# Altium integrated library Linear Technology Power Management Power Control.IntLib: 661 symbols (part 30 of 43)
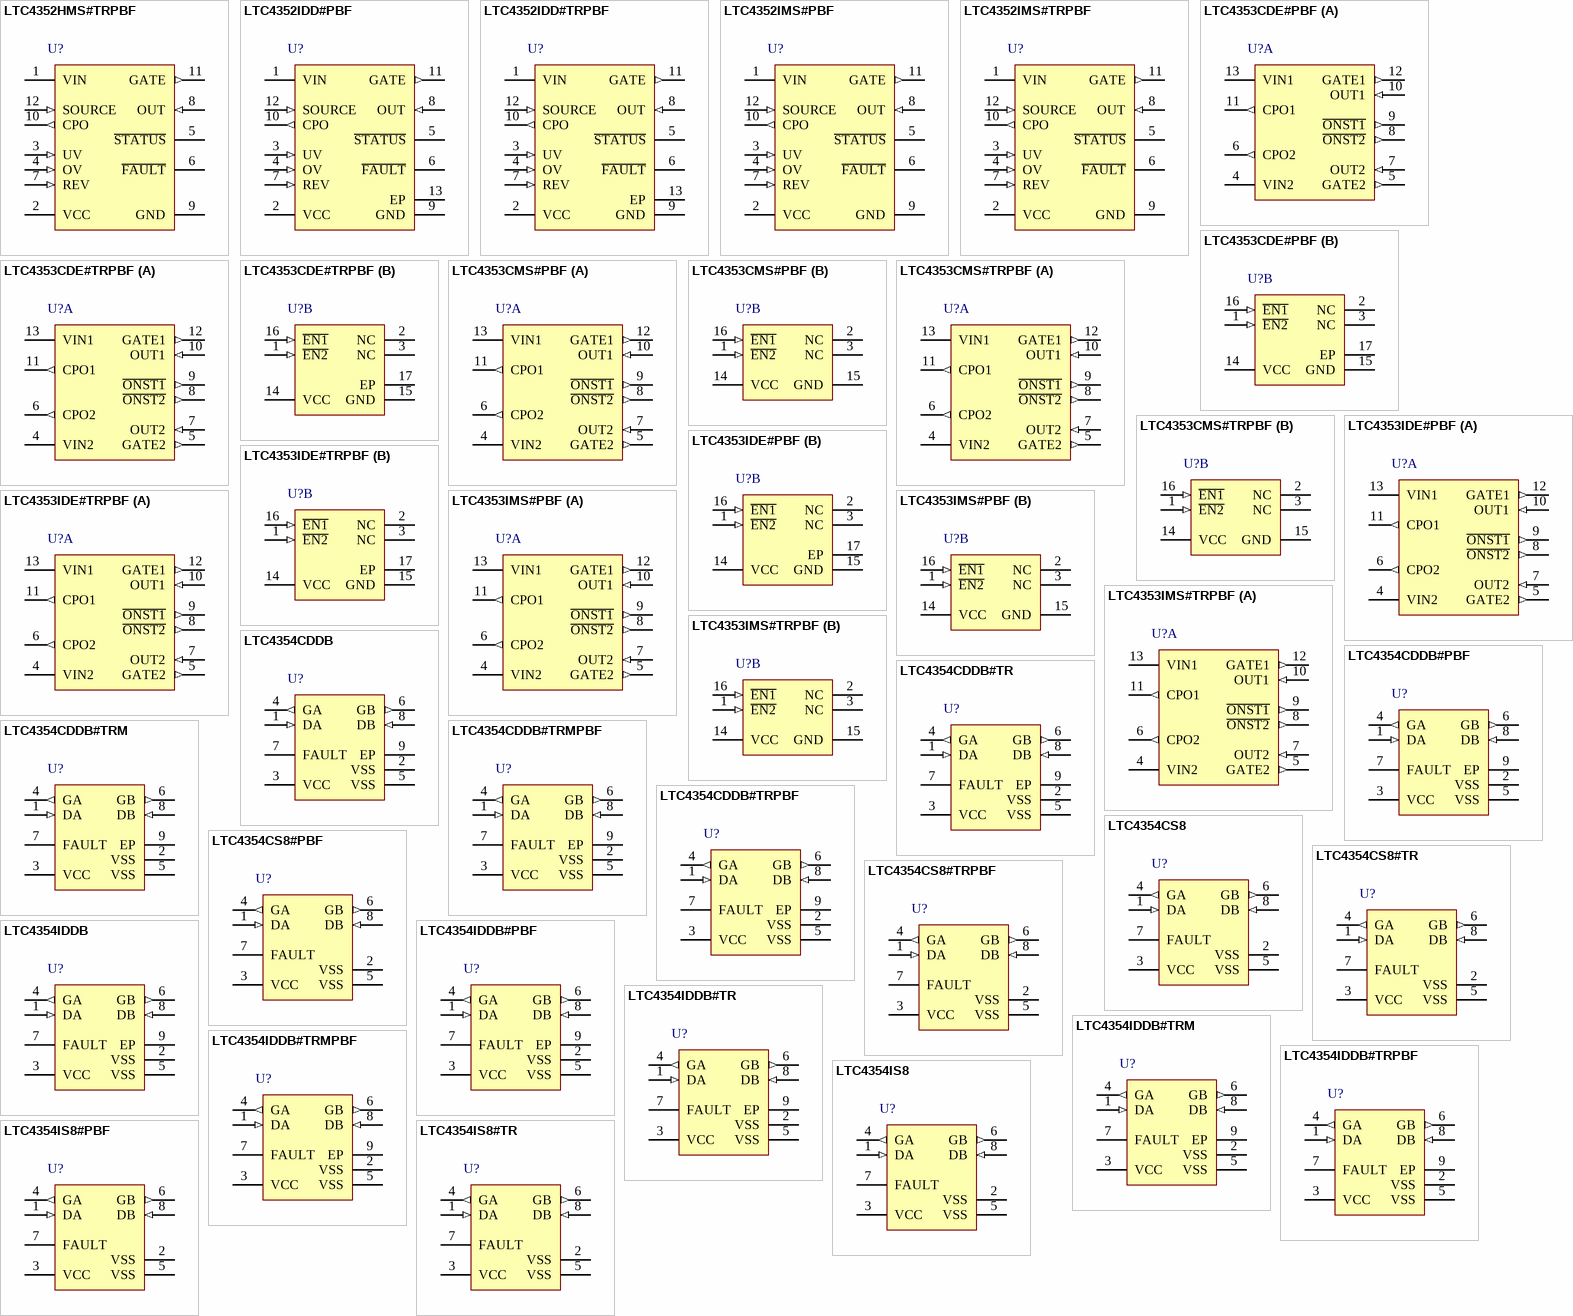
[diagram p48: symbols LTC4352HMS#TRPBF to LTC4354IS8#TR]

## LTC4354IS8#PBF
designator U?
Dual Channel, 1 us Turn-off Time, -12 to -80 V Vin, 8-pin SOIC (S8-8), -40 to 85 degC, Pb-Free; Manufacturer: Linear Technology; PartNumber: LTC4354IS8#PBF; Ideal Diode: Dual, External, N-Channel; DatasheetVersion: Rev. C; PackageVersion: Rev. G, 03/2012; PackageReference: S8-8; PackageDescription: 8-Pin Plastic Small Outline (Narrow .150 Inch), Body 4.9 x 3.9 mm, Pitch 1.27 mm; Supplier 1: Digi-Key; Supplier Part Number 1: LTC4354IS8#PBF-ND; Supplier 2: Farnell; Supplier Part Number 2: 2295292; Supplier 3: Newark; Supplier Part Number 3: 56M9455; RoHS: TRUE; Mounting Technology: Surface Mount; ComponentLink1Description: Manufacturer URL; ComponentLink1URL: http://www.linear.com/; ComponentLink2Description: Datasheet; ComponentLink2URL: http://cds.linear.com/docs/en/datasheet/4354fc.pdf; ComponentLink3Description: Package Specification; ComponentLink3URL: http://cds.linear.com/docs/en/packaging/05081610_G_SO8.pdf
footprint LT-S8-8_N (SOIC, 8-Leads, Body 5x4mm, Pitch 1.27mm, IPC Medium Density)
footprint LT-S8-8_L (SOIC, 8-Leads, Body 5x4mm, Pitch 1.27mm, IPC High Density)
footprint LT-S8-8_M (SOIC, 8-Leads, Body 5x4mm, Pitch 1.27mm, IPC Low Density)
pins: 1 DA (in) "Drain Voltage Sense Inputs. These pins sense source drain voltage drop across the N-channel MOSFETs. An external resistor is recommended to protect these pins from transient voltages exceeding 80V in extreme fault conditions.(See Datasheet)", 2 VSS (power) "Negative Supply Voltage Input. This is the device negative supply input and connects to the common source connection of the N-channel MOSFETs. It also connects to the source voltage sense input of the servo amplifiers. For (See Datasheet)", 3 VCC (power) "Positive Supply Voltage Input. Connect this pin to the positive side of the supply through a resistor. An internal shunt regulator that can sink up to 20mA typically clamps VCC at 11V. Bypass this pin with a 1uF capacitor to (See Datasheet)", 4 GA (out) "Gate Drive Outputs. Gate pins pull high to 10V minimum, fully enhancing the N-channel MOSFET, when the load current creates more than 30mV of drop across the MOSFET. When the load current is small, the gates are actively (See Datasheet)", 5 VSS (power) "Negative Supply Voltage Input. This is the device negative supply input and connects to the common source connection of the N-channel MOSFETs. It also connects to the source voltage sense input of the servo amplifiers. For (See Datasheet)", 6 GB (out) "Gate Drive Outputs. Gate pins pull high to 10V minimum, fully enhancing the N-channel MOSFET, when the load current creates more than 30mV of drop across the MOSFET. When the load current is small, the gates are actively (See Datasheet)", 7 FAULT (hiz) "Fault Output. Open-drain output that normally pulls the FAULT pin to VSS and shunts current to turn off an external LED or opto-coupler. In the fault condition, where the pass transistor is fully on and the voltage drop (See Datasheet)", 8 DB (in) "Drain Voltage Sense Inputs. These pins sense source drain voltage drop across the N-channel MOSFETs. An external resistor is recommended to protect these pins from transient voltages exceeding 80V in extreme fault conditions.(See Datasheet)"

## LTC4354IS8#TR
designator U?
Dual Channel, 1 us Turn-off Time, -12 to -80 V Vin, 8-pin SOIC (S8-8), -40 to 85 degC, Tape and Reel; Manufacturer: Linear Technology; PartNumber: LTC4354IS8#TR; Ideal Diode: Dual, External, N-Channel; DatasheetVersion: Rev. C; PackageVersion: Rev. G, 03/2012; PackageReference: S8-8; PackageDescription: 8-Pin Plastic Small Outline (Narrow .150 Inch), Body 4.9 x 3.9 mm, Pitch 1.27 mm; Supplier 1: Digi-Key; Supplier Part Number 1: LTC4354IS8#TR-ND; Packing: Tape and Reel; RoHS: FALSE; Mounting Technology: Surface Mount; ComponentLink1Description: Manufacturer URL; ComponentLink1URL: http://www.linear.com/; ComponentLink2Description: Datasheet; ComponentLink2URL: http://cds.linear.com/docs/en/datasheet/4354fc.pdf; ComponentLink3Description: Package Specification; ComponentLink3URL: http://cds.linear.com/docs/en/packaging/05081610_G_SO8.pdf
footprint LT-S8-8_N (SOIC, 8-Leads, Body 5x4mm, Pitch 1.27mm, IPC Medium Density)
footprint LT-S8-8_L (SOIC, 8-Leads, Body 5x4mm, Pitch 1.27mm, IPC High Density)
footprint LT-S8-8_M (SOIC, 8-Leads, Body 5x4mm, Pitch 1.27mm, IPC Low Density)
pins: 1 DA (in) "Drain Voltage Sense Inputs. These pins sense source drain voltage drop across the N-channel MOSFETs. An external resistor is recommended to protect these pins from transient voltages exceeding 80V in extreme fault conditions.(See Datasheet)", 2 VSS (power) "Negative Supply Voltage Input. This is the device negative supply input and connects to the common source connection of the N-channel MOSFETs. It also connects to the source voltage sense input of the servo amplifiers. For (See Datasheet)", 3 VCC (power) "Positive Supply Voltage Input. Connect this pin to the positive side of the supply through a resistor. An internal shunt regulator that can sink up to 20mA typically clamps VCC at 11V. Bypass this pin with a 1uF capacitor to (See Datasheet)", 4 GA (out) "Gate Drive Outputs. Gate pins pull high to 10V minimum, fully enhancing the N-channel MOSFET, when the load current creates more than 30mV of drop across the MOSFET. When the load current is small, the gates are actively (See Datasheet)", 5 VSS (power) "Negative Supply Voltage Input. This is the device negative supply input and connects to the common source connection of the N-channel MOSFETs. It also connects to the source voltage sense input of the servo amplifiers. For (See Datasheet)", 6 GB (out) "Gate Drive Outputs. Gate pins pull high to 10V minimum, fully enhancing the N-channel MOSFET, when the load current creates more than 30mV of drop across the MOSFET. When the load current is small, the gates are actively (See Datasheet)", 7 FAULT (hiz) "Fault Output. Open-drain output that normally pulls the FAULT pin to VSS and shunts current to turn off an external LED or opto-coupler. In the fault condition, where the pass transistor is fully on and the voltage drop (See Datasheet)", 8 DB (in) "Drain Voltage Sense Inputs. These pins sense source drain voltage drop across the N-channel MOSFETs. An external resistor is recommended to protect these pins from transient voltages exceeding 80V in extreme fault conditions.(See Datasheet)"

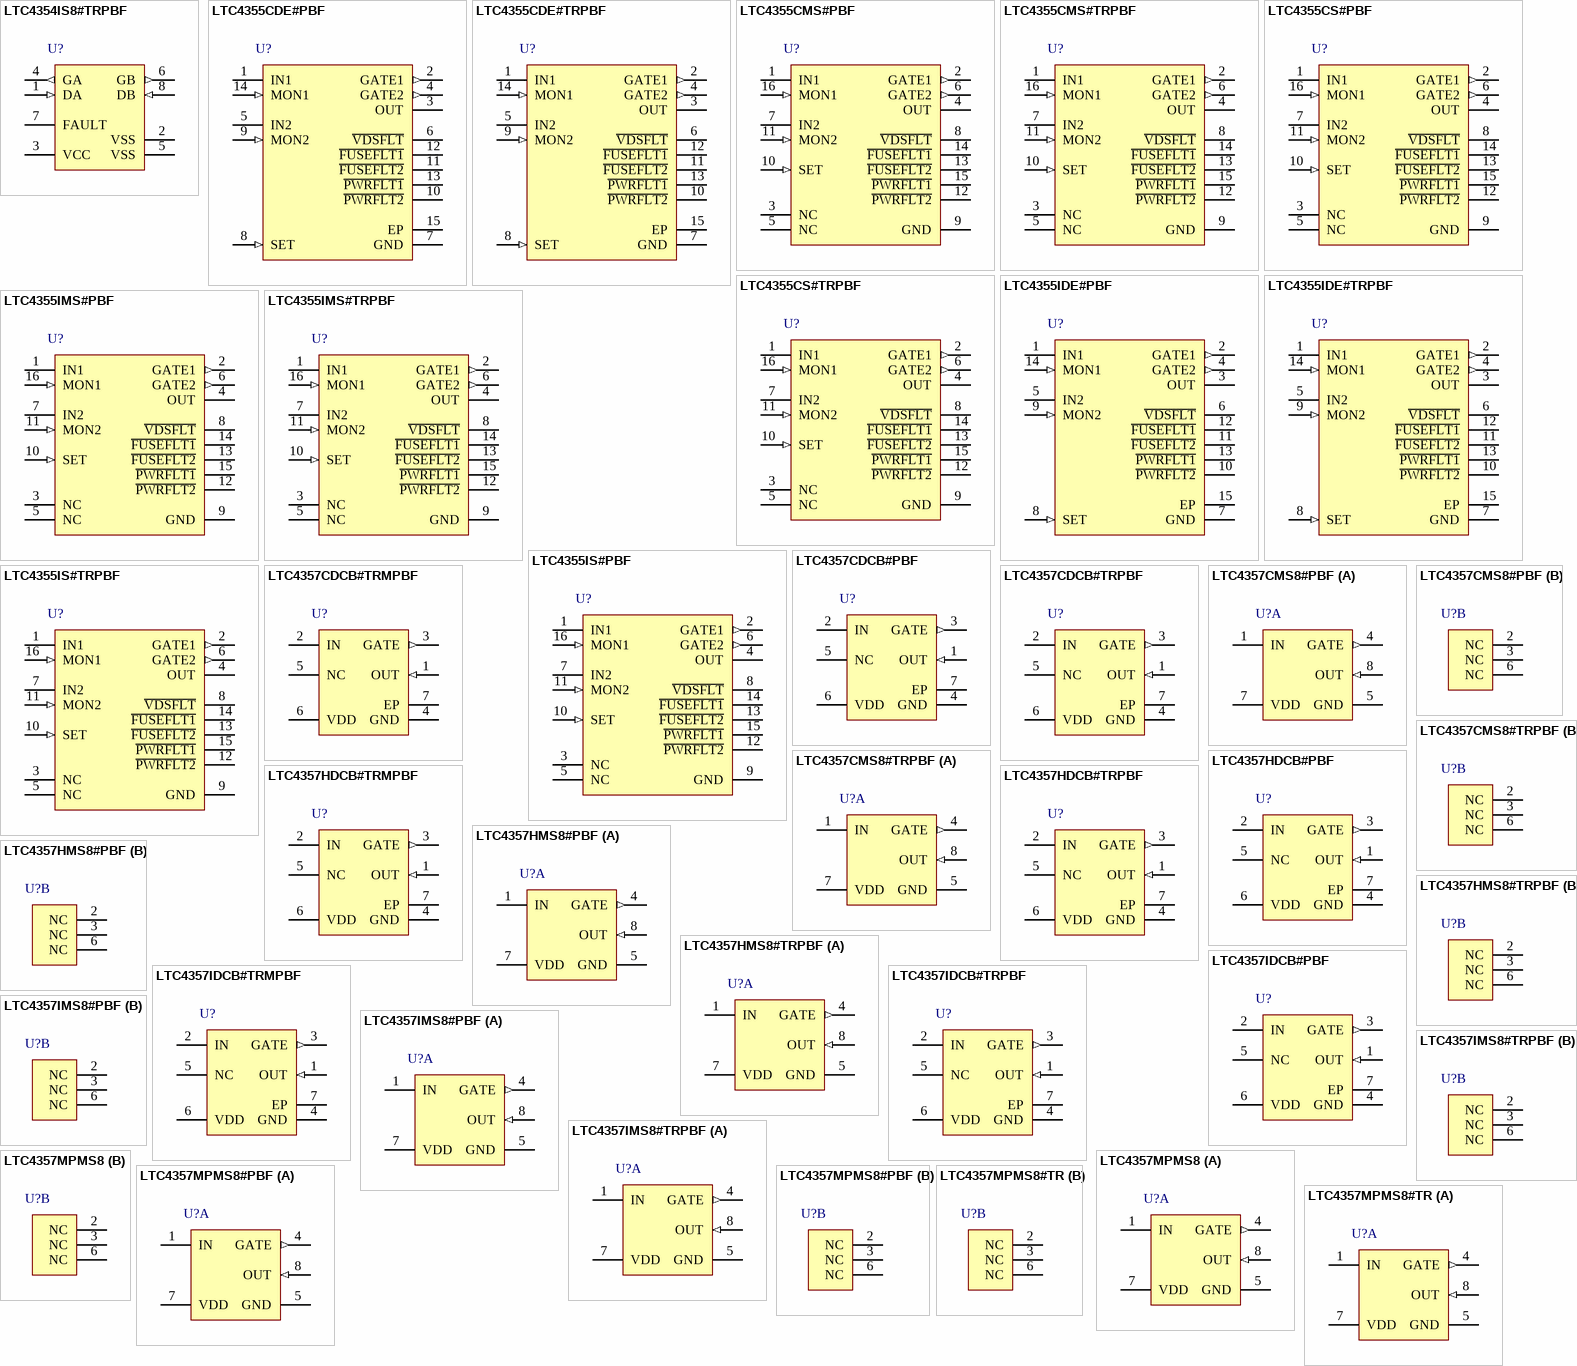
[diagram p14: symbols LTC4354IS8#TRPBF to LTC4357MPMS8#TR]

## LTC4354IS8#TRPBF
designator U?
Dual Channel, 1 us Turn-off Time, -12 to -80 V Vin, 8-pin SOIC (S8-8), -40 to 85 degC, Pb-Free, Tape and Reel; Manufacturer: Linear Technology; PartNumber: LTC4354IS8#TRPBF; Ideal Diode: Dual, External, N-Channel; DatasheetVersion: Rev. C; PackageVersion: Rev. G, 03/2012; PackageReference: S8-8; PackageDescription: 8-Pin Plastic Small Outline (Narrow .150 Inch), Body 4.9 x 3.9 mm, Pitch 1.27 mm; Supplier 1: Digi-Key; Supplier Part Number 1: LTC4354IS8#TRPBF-ND; Supplier 2: Newark; Supplier Part Number 2: 56M9457; Packing: Tape and Reel; RoHS: TRUE; Mounting Technology: Surface Mount; ComponentLink1Description: Manufacturer URL; ComponentLink1URL: http://www.linear.com/; ComponentLink2Description: Datasheet; ComponentLink2URL: http://cds.linear.com/docs/en/datasheet/4354fc.pdf; ComponentLink3Description: Package Specification; ComponentLink3URL: http://cds.linear.com/docs/en/packaging/05081610_G_SO8.pdf
footprint LT-S8-8_N (SOIC, 8-Leads, Body 5x4mm, Pitch 1.27mm, IPC Medium Density)
footprint LT-S8-8_L (SOIC, 8-Leads, Body 5x4mm, Pitch 1.27mm, IPC High Density)
footprint LT-S8-8_M (SOIC, 8-Leads, Body 5x4mm, Pitch 1.27mm, IPC Low Density)
pins: 1 DA (in) "Drain Voltage Sense Inputs. These pins sense source drain voltage drop across the N-channel MOSFETs. An external resistor is recommended to protect these pins from transient voltages exceeding 80V in extreme fault conditions.(See Datasheet)", 2 VSS (power) "Negative Supply Voltage Input. This is the device negative supply input and connects to the common source connection of the N-channel MOSFETs. It also connects to the source voltage sense input of the servo amplifiers. For (See Datasheet)", 3 VCC (power) "Positive Supply Voltage Input. Connect this pin to the positive side of the supply through a resistor. An internal shunt regulator that can sink up to 20mA typically clamps VCC at 11V. Bypass this pin with a 1uF capacitor to (See Datasheet)", 4 GA (out) "Gate Drive Outputs. Gate pins pull high to 10V minimum, fully enhancing the N-channel MOSFET, when the load current creates more than 30mV of drop across the MOSFET. When the load current is small, the gates are actively (See Datasheet)", 5 VSS (power) "Negative Supply Voltage Input. This is the device negative supply input and connects to the common source connection of the N-channel MOSFETs. It also connects to the source voltage sense input of the servo amplifiers. For (See Datasheet)", 6 GB (out) "Gate Drive Outputs. Gate pins pull high to 10V minimum, fully enhancing the N-channel MOSFET, when the load current creates more than 30mV of drop across the MOSFET. When the load current is small, the gates are actively (See Datasheet)", 7 FAULT (hiz) "Fault Output. Open-drain output that normally pulls the FAULT pin to VSS and shunts current to turn off an external LED or opto-coupler. In the fault condition, where the pass transistor is fully on and the voltage drop (See Datasheet)", 8 DB (in) "Drain Voltage Sense Inputs. These pins sense source drain voltage drop across the N-channel MOSFETs. An external resistor is recommended to protect these pins from transient voltages exceeding 80V in extreme fault conditions.(See Datasheet)"

## LTC4355CDE#PBF
designator U?
Positive High Voltage Dual Ideal Diode-OR with Input Supply and Fuse Monitors, 9 to 80 V Vin, 14-pin SON (DE-14), 0 to 70 degC, Pb-Free; Manufacturer: Linear Technology; PartNumber: LTC4355CDE#PBF; Ideal Diode: Dual, External, N-Channel; DatasheetVersion: Rev. E; PackageVersion: Rev. B, 06/2010; PackageReference: DE-14; PackageDescription: 14-Pin Plastic DFN, Body 4 x 3 mm, Pitch 0.5 mm; Supplier 1: Digi-Key; Supplier Part Number 1: LTC4355CDE#PBF-ND; Supplier 2: Newark; Supplier Part Number 2: 56M9458; RoHS: TRUE; Mounting Technology: Surface Mount; Code_JEDEC: MO-229; ComponentLink1Description: Manufacturer URL; ComponentLink1URL: http://www.linear.com/; ComponentLink2Description: Datasheet; ComponentLink2URL: http://cds.linear.com/docs/en/datasheet/4355fe.pdf; ComponentLink3Description: Package Specification; ComponentLink3URL: http://www.linear.com/docs/en/packaging/DFN_14_05-08-1708.pdf
footprint LT-DE-14_V (SON, 14-Leads, Body 4x3mm, Pitch 0.5mm, Thermal Pad 3.3x1.7mm)
pins: 1 IN1 (power) "Input Voltages and GATE Fast Pull-Down Returns. The IN pins are the anodes of the ideal diodes and connect to the sources of the N-channel MOSFETs. The voltages sensed at these pins are used to control the source-drain (See Datasheet)", 2 GATE1 (out) "Gate Drive Outputs. The GATE pins pull high, enhancing the N-channel MOSFET when the load current creates more than 25mV of voltage drop across the MOSFET. When the load current is small, the gates are actively driven to (See Datasheet)", 3 OUT (power) "Drain Voltage Sense and Positive Supply Input. OUT is the diode-OR output of IN1 and IN2. It connects to the common drain connection of the N-channel MOSFETs. The voltage sensed at this pin is used to control the sourcedrain (See Datasheet)", 4 GATE2 (out) "Gate Drive Outputs. The GATE pins pull high, enhancing the N-channel MOSFET when the load current creates more than 25mV of voltage drop across the MOSFET. When the load current is small, the gates are actively driven to (See Datasheet)", 5 IN2 (power) "Input Voltages and GATE Fast Pull-Down Returns. The IN pins are the anodes of the ideal diodes and connect to the sources of the N-channel MOSFETs. The voltages sensed at these pins are used to control the source-drain (See Datasheet)", 6 ~{VDSFLT} (hiz) "MOSFET Fault Output. Open-drain output that pulls to GND when the forward voltage across either MOSFET exceeds deltaVSD(FLT). P\W\R\F\L\T\1\ or P\W\R\F\L\T\2\ also pulls low to indicate which MOSFET’s forward voltage dro(See Datasheet)", 7 GND (power) "Device Ground.", 8 SET (in) "deltaVSD(FLT) Threshold Confi guration Input. Tying SET to GND, to a 100k resistor connected to GND, or leaving SET open confi gures the deltaVSD(FLT) forward voltage fault threshold to 250mV, 500mV, or 1.5V, respectively. (See Datasheet)", 9 MON2 (in) "Input Supply Monitors. These pins are used to sense the input supply voltages. Connect these pins to external resistive dividers between the input supplies and GND. If VMONx falls below 1.23V, the P\W\R\F\L\T\x\ pin pulls to (See Datasheet)", 10 ~{PWRFLT2} (hiz) "Power Fault Outputs. Open-drain output that pulls to GND when VMONx falls below 1.23V or the forward voltage across the MOSFET exceeds deltaVSD(FLT). When VMONx is above 1.23V and theforward voltage across the MOSFET is less (See Datasheet)", 11 ~{FUSEFLT2} (hiz) "Fuse Fault Outputs. Open-drain output that pulls to GND when VINx < 3.5V, indicating that the fuse has blown open. Otherwise, this output is high impedance. Connect to GND if unused.", 12 ~{FUSEFLT1} (hiz) "Fuse Fault Outputs. Open-drain output that pulls to GND when VINx < 3.5V, indicating that the fuse has blown open. Otherwise, this output is high impedance. Connect to GND if unused.", 13 ~{PWRFLT1} (hiz) "Power Fault Outputs. Open-drain output that pulls to GND when VMONx falls below 1.23V or the forward voltage across the MOSFET exceeds deltaVSD(FLT). When VMONx is above 1.23V and theforward voltage across the MOSFET is less (See Datasheet)", 14 MON1 (in) "Input Supply Monitors. These pins are used to sense the input supply voltages. Connect these pins to external resistive dividers between the input supplies and GND. If VMONx falls below 1.23V, the P\W\R\F\L\T\x\ pin pulls to (See Datasheet)", 15 EP (power) "Exposed pad may be left open or connected to GND."

## LTC4355CDE#TRPBF
designator U?
Positive High Voltage Dual Ideal Diode-OR with Input Supply and Fuse Monitors, 9 to 80 V Vin, 14-pin SON (DE-14), 0 to 70 degC, Pb-Free, Tape and Reel; Manufacturer: Linear Technology; PartNumber: LTC4355CDE#TRPBF; Ideal Diode: Dual, External, N-Channel; DatasheetVersion: Rev. E; PackageVersion: Rev. B, 06/2010; PackageReference: DE-14; PackageDescription: 14-Pin Plastic DFN, Body 4 x 3 mm, Pitch 0.5 mm; Supplier 1: Digi-Key; Supplier Part Number 1: LTC4355CDE#TRPBF-ND; Supplier 2: Newark; Supplier Part Number 2: 56M9459; Packing: Tape and Reel; RoHS: TRUE; Mounting Technology: Surface Mount; Code_JEDEC: MO-229; ComponentLink1Description: Manufacturer URL; ComponentLink1URL: http://www.linear.com/; ComponentLink2Description: Datasheet; ComponentLink2URL: http://cds.linear.com/docs/en/datasheet/4355fe.pdf; ComponentLink3Description: Package Specification; ComponentLink3URL: http://www.linear.com/docs/en/packaging/DFN_14_05-08-1708.pdf
footprint LT-DE-14_V (SON, 14-Leads, Body 4x3mm, Pitch 0.5mm, Thermal Pad 3.3x1.7mm)
pins: 1 IN1 (power) "Input Voltages and GATE Fast Pull-Down Returns. The IN pins are the anodes of the ideal diodes and connect to the sources of the N-channel MOSFETs. The voltages sensed at these pins are used to control the source-drain (See Datasheet)", 2 GATE1 (out) "Gate Drive Outputs. The GATE pins pull high, enhancing the N-channel MOSFET when the load current creates more than 25mV of voltage drop across the MOSFET. When the load current is small, the gates are actively driven to (See Datasheet)", 3 OUT (power) "Drain Voltage Sense and Positive Supply Input. OUT is the diode-OR output of IN1 and IN2. It connects to the common drain connection of the N-channel MOSFETs. The voltage sensed at this pin is used to control the sourcedrain (See Datasheet)", 4 GATE2 (out) "Gate Drive Outputs. The GATE pins pull high, enhancing the N-channel MOSFET when the load current creates more than 25mV of voltage drop across the MOSFET. When the load current is small, the gates are actively driven to (See Datasheet)", 5 IN2 (power) "Input Voltages and GATE Fast Pull-Down Returns. The IN pins are the anodes of the ideal diodes and connect to the sources of the N-channel MOSFETs. The voltages sensed at these pins are used to control the source-drain (See Datasheet)", 6 ~{VDSFLT} (hiz) "MOSFET Fault Output. Open-drain output that pulls to GND when the forward voltage across either MOSFET exceeds deltaVSD(FLT). P\W\R\F\L\T\1\ or P\W\R\F\L\T\2\ also pulls low to indicate which MOSFET’s forward voltage dro(See Datasheet)", 7 GND (power) "Device Ground.", 8 SET (in) "deltaVSD(FLT) Threshold Confi guration Input. Tying SET to GND, to a 100k resistor connected to GND, or leaving SET open confi gures the deltaVSD(FLT) forward voltage fault threshold to 250mV, 500mV, or 1.5V, respectively. (See Datasheet)", 9 MON2 (in) "Input Supply Monitors. These pins are used to sense the input supply voltages. Connect these pins to external resistive dividers between the input supplies and GND. If VMONx falls below 1.23V, the P\W\R\F\L\T\x\ pin pulls to (See Datasheet)", 10 ~{PWRFLT2} (hiz) "Power Fault Outputs. Open-drain output that pulls to GND when VMONx falls below 1.23V or the forward voltage across the MOSFET exceeds deltaVSD(FLT). When VMONx is above 1.23V and theforward voltage across the MOSFET is less (See Datasheet)", 11 ~{FUSEFLT2} (hiz) "Fuse Fault Outputs. Open-drain output that pulls to GND when VINx < 3.5V, indicating that the fuse has blown open. Otherwise, this output is high impedance. Connect to GND if unused.", 12 ~{FUSEFLT1} (hiz) "Fuse Fault Outputs. Open-drain output that pulls to GND when VINx < 3.5V, indicating that the fuse has blown open. Otherwise, this output is high impedance. Connect to GND if unused.", 13 ~{PWRFLT1} (hiz) "Power Fault Outputs. Open-drain output that pulls to GND when VMONx falls below 1.23V or the forward voltage across the MOSFET exceeds deltaVSD(FLT). When VMONx is above 1.23V and theforward voltage across the MOSFET is less (See Datasheet)", 14 MON1 (in) "Input Supply Monitors. These pins are used to sense the input supply voltages. Connect these pins to external resistive dividers between the input supplies and GND. If VMONx falls below 1.23V, the P\W\R\F\L\T\x\ pin pulls to (See Datasheet)", 15 EP (power) "Exposed pad may be left open or connected to GND."

## LTC4355CMS#PBF
designator U?
Positive High Voltage Dual Ideal Diode-OR with Input Supply and Fuse Monitors, 9 to 80 V Vin, 16-pin SOP (MS-16), 0 to 70 degC, Pb-Free; Manufacturer: Linear Technology; PartNumber: LTC4355CMS#PBF; Ideal Diode: Dual, External, N-Channel; DatasheetVersion: Rev. E; PackageVersion: Rev. Ø, 06/2010; PackageReference: MS16; PackageDescription: 16-Pin Plastic MSOP, Body 4.04 x 3.00 mm, Pitch 0.50 mm; Supplier 1: Digi-Key; Supplier Part Number 1: LTC4355CMS#PBF-ND; Supplier 2: Newark; Supplier Part Number 2: 71P8107; RoHS: TRUE; Mounting Technology: Surface Mount; ComponentLink1Description: Manufacturer URL; ComponentLink1URL: http://www.linear.com/; ComponentLink2Description: Datasheet; ComponentLink2URL: http://cds.linear.com/docs/en/datasheet/4355fe.pdf; ComponentLink3Description: Package Specification; ComponentLink3URL: http://cds.linear.com/docs/en/packaging/05081669_A_MS16.pdf
footprint LT-MS-16_N (SOP, 16-Leads, Body 4.1x3.1mm, Pitch 0.5mm, IPC Medium Density)
footprint LT-MS-16_L (SOP, 16-Leads, Body 4.1x3.1mm, Pitch 0.5mm, IPC High Density)
footprint LT-MS-16_M (SOP, 16-Leads, Body 4.1x3.1mm, Pitch 0.5mm, IPC Low Density)
pins: 1 IN1 (power) "Input Voltages and GATE Fast Pull-Down Returns. The IN pins are the anodes of the ideal diodes and connect to the sources of the N-channel MOSFETs. The voltages sensed at these pins are used to control the source-drain (See Datasheet)", 2 GATE1 (out) "Gate Drive Outputs. The GATE pins pull high, enhancing the N-channel MOSFET when the load current creates more than 25mV of voltage drop across the MOSFET. When the load current is small, the gates are actively driven to (See Datasheet)", 3 NC "No Connection. Not internally connected. These pins provide extra distance between high and low voltage pins.", 4 OUT (power) "Drain Voltage Sense and Positive Supply Input. OUT is the diode-OR output of IN1 and IN2. It connects to the common drain connection of the N-channel MOSFETs. The voltage sensed at this pin is used to control the sourcedrain (See Datasheet)", 5 NC "No Connection. Not internally connected. These pins provide extra distance between high and low voltage pins.", 6 GATE2 (out) "Gate Drive Outputs. The GATE pins pull high, enhancing the N-channel MOSFET when the load current creates more than 25mV of voltage drop across the MOSFET. When the load current is small, the gates are actively driven to (See Datasheet)", 7 IN2 (power) "Input Voltages and GATE Fast Pull-Down Returns. The IN pins are the anodes of the ideal diodes and connect to the sources of the N-channel MOSFETs. The voltages sensed at these pins are used to control the source-drain (See Datasheet)", 8 ~{VDSFLT} (hiz) "MOSFET Fault Output. Open-drain output that pulls to GND when the forward voltage across either MOSFET exceeds deltaVSD(FLT). P\W\R\F\L\T\1\ or P\W\R\F\L\T\2\ also pulls low to indicate which MOSFET’s forward voltage dro(See Datasheet)", 9 GND (power) "Device Ground.", 10 SET (in) "deltaVSD(FLT) Threshold Configuration Input. Tying SET to GND, to a 100k resistor connected to GND, or leaving SET open configures the deltaVSD(FLT) forward voltage fault threshold to 250mV, 500mV, or 1.5V, respectively. (See Datasheet)", 11 MON2 (in) "Input Supply Monitors. These pins are used to sense the input supply voltages. Connect these pins to external resistive dividers between the input supplies and GND. If VMONx falls below 1.23V, the P\W\R\F\L\T\x\ pin pulls to (See Datasheet)", 12 ~{PWRFLT2} (hiz) "Power Fault Outputs. Open-drain output that pulls to GND when VMONx falls below 1.23V or the forward voltage across the MOSFET exceeds deltaVSD(FLT). When VMONx is above 1.23V and theforward voltage across the MOSFET is less (See Datasheet)", 13 ~{FUSEFLT2} (hiz) "Fuse Fault Outputs. Open-drain output that pulls to GND when VINx < 3.5V, indicating that the fuse has blown open. Otherwise, this output is high impedance. Connect to GND if unused.", 14 ~{FUSEFLT1} (hiz) "Fuse Fault Outputs. Open-drain output that pulls to GND when VINx < 3.5V, indicating that the fuse has blown open. Otherwise, this output is high impedance. Connect to GND if unused.", 15 ~{PWRFLT1} (hiz) "Power Fault Outputs. Open-drain output that pulls to GND when VMONx falls below 1.23V or the forward voltage across the MOSFET exceeds deltaVSD(FLT). When VMONx is above 1.23V and theforward voltage across the MOSFET is less (See Datasheet)", 16 MON1 (in) "Input Supply Monitors. These pins are used to sense the input supply voltages. Connect these pins to external resistive dividers between the input supplies and GND. If VMONx falls below 1.23V, the P\W\R\F\L\T\x\ pin pulls to (See Datasheet)"

## LTC4355CMS#TRPBF
designator U?
Positive High Voltage Dual Ideal Diode-OR with Input Supply and Fuse Monitors, 9 to 80 V Vin, 16-pin SOP (MS-16), 0 to 70 degC, Pb-Free, Tape and Reel; Manufacturer: Linear Technology; PartNumber: LTC4355CMS#TRPBF; Ideal Diode: Dual, External, N-Channel; DatasheetVersion: Rev. E; PackageVersion: Rev. Ø, 06/2010; PackageReference: MS16; PackageDescription: 16-Pin Plastic MSOP, Body 4.04 x 3.00 mm, Pitch 0.50 mm; Supplier 1: Digi-Key; Supplier Part Number 1: LTC4355CMS#TRPBF-ND; Packing: Tape and Reel; RoHS: TRUE; Mounting Technology: Surface Mount; ComponentLink1Description: Manufacturer URL; ComponentLink1URL: http://www.linear.com/; ComponentLink2Description: Datasheet; ComponentLink2URL: http://cds.linear.com/docs/en/datasheet/4355fe.pdf; ComponentLink3Description: Package Specification; ComponentLink3URL: http://cds.linear.com/docs/en/packaging/05081669_A_MS16.pdf
footprint LT-MS-16_N (SOP, 16-Leads, Body 4.1x3.1mm, Pitch 0.5mm, IPC Medium Density)
footprint LT-MS-16_L (SOP, 16-Leads, Body 4.1x3.1mm, Pitch 0.5mm, IPC High Density)
footprint LT-MS-16_M (SOP, 16-Leads, Body 4.1x3.1mm, Pitch 0.5mm, IPC Low Density)
pins: 1 IN1 (power) "Input Voltages and GATE Fast Pull-Down Returns. The IN pins are the anodes of the ideal diodes and connect to the sources of the N-channel MOSFETs. The voltages sensed at these pins are used to control the source-drain (See Datasheet)", 2 GATE1 (out) "Gate Drive Outputs. The GATE pins pull high, enhancing the N-channel MOSFET when the load current creates more than 25mV of voltage drop across the MOSFET. When the load current is small, the gates are actively driven to (See Datasheet)", 3 NC "No Connection. Not internally connected. These pins provide extra distance between high and low voltage pins.", 4 OUT (power) "Drain Voltage Sense and Positive Supply Input. OUT is the diode-OR output of IN1 and IN2. It connects to the common drain connection of the N-channel MOSFETs. The voltage sensed at this pin is used to control the sourcedrain (See Datasheet)", 5 NC "No Connection. Not internally connected. These pins provide extra distance between high and low voltage pins.", 6 GATE2 (out) "Gate Drive Outputs. The GATE pins pull high, enhancing the N-channel MOSFET when the load current creates more than 25mV of voltage drop across the MOSFET. When the load current is small, the gates are actively driven to (See Datasheet)", 7 IN2 (power) "Input Voltages and GATE Fast Pull-Down Returns. The IN pins are the anodes of the ideal diodes and connect to the sources of the N-channel MOSFETs. The voltages sensed at these pins are used to control the source-drain (See Datasheet)", 8 ~{VDSFLT} (hiz) "MOSFET Fault Output. Open-drain output that pulls to GND when the forward voltage across either MOSFET exceeds deltaVSD(FLT). P\W\R\F\L\T\1\ or P\W\R\F\L\T\2\ also pulls low to indicate which MOSFET’s forward voltage dro(See Datasheet)", 9 GND (power) "Device Ground.", 10 SET (in) "deltaVSD(FLT) Threshold Configuration Input. Tying SET to GND, to a 100k resistor connected to GND, or leaving SET open configures the deltaVSD(FLT) forward voltage fault threshold to 250mV, 500mV, or 1.5V, respectively. (See Datasheet)", 11 MON2 (in) "Input Supply Monitors. These pins are used to sense the input supply voltages. Connect these pins to external resistive dividers between the input supplies and GND. If VMONx falls below 1.23V, the P\W\R\F\L\T\x\ pin pulls to (See Datasheet)", 12 ~{PWRFLT2} (hiz) "Power Fault Outputs. Open-drain output that pulls to GND when VMONx falls below 1.23V or the forward voltage across the MOSFET exceeds deltaVSD(FLT). When VMONx is above 1.23V and theforward voltage across the MOSFET is less (See Datasheet)", 13 ~{FUSEFLT2} (hiz) "Fuse Fault Outputs. Open-drain output that pulls to GND when VINx < 3.5V, indicating that the fuse has blown open. Otherwise, this output is high impedance. Connect to GND if unused.", 14 ~{FUSEFLT1} (hiz) "Fuse Fault Outputs. Open-drain output that pulls to GND when VINx < 3.5V, indicating that the fuse has blown open. Otherwise, this output is high impedance. Connect to GND if unused.", 15 ~{PWRFLT1} (hiz) "Power Fault Outputs. Open-drain output that pulls to GND when VMONx falls below 1.23V or the forward voltage across the MOSFET exceeds deltaVSD(FLT). When VMONx is above 1.23V and theforward voltage across the MOSFET is less (See Datasheet)", 16 MON1 (in) "Input Supply Monitors. These pins are used to sense the input supply voltages. Connect these pins to external resistive dividers between the input supplies and GND. If VMONx falls below 1.23V, the P\W\R\F\L\T\x\ pin pulls to (See Datasheet)"

## LTC4355CS#PBF
designator U?
Positive High Voltage Dual Ideal Diode-OR with Input Supply and Fuse Monitors, 9 to 80 V Vin, 16-pin SOP (S-16), 0 to 70 degC, Pb-Free; Manufacturer: Linear Technology; PartNumber: LTC4355CS#PBF; Ideal Diode: Dual, External, N-Channel; DatasheetVersion: Rev. E; PackageVersion: Rev. G, 05/2012; PackageReference: S-16; PackageDescription: 16-Pin Plastic Small Outline, Body 9.9 x 3.9 mm, Pitch 1.27 mm; Supplier 1: Digi-Key; Supplier Part Number 1: LTC4355CS#PBF-ND; Supplier 2: Farnell; Supplier Part Number 2: 2295293; RoHS: TRUE; Mounting Technology: Surface Mount; ComponentLink1Description: Manufacturer URL; ComponentLink1URL: http://www.linear.com/; ComponentLink2Description: Datasheet; ComponentLink2URL: http://cds.linear.com/docs/en/datasheet/4355fe.pdf; ComponentLink3Description: Package Specification; ComponentLink3URL: http://cds.linear.com/docs/en/packaging/S16%2005-08-1610%20Rev%20G.pdf
footprint LT-S-16_N (SOP, 16-Leads, Body 10x4mm, Pitch 1.27mm, IPC Medium Density)
footprint LT-S-16_L (SOP, 16-Leads, Body 10x4mm, Pitch 1.27mm, IPC High Density)
footprint LT-S-16_M (SOP, 16-Leads, Body 10x4mm, Pitch 1.27mm, IPC Low Density)
pins: 1 IN1 (power) "Input Voltages and GATE Fast Pull-Down Returns. The IN pins are the anodes of the ideal diodes and connect to the sources of the N-channel MOSFETs. The voltages sensed at these pins are used to control the source-drain (See Datasheet)", 2 GATE1 (out) "Gate Drive Outputs. The GATE pins pull high, enhancing the N-channel MOSFET when the load current creates more than 25mV of voltage drop across the MOSFET. When the load current is small, the gates are actively driven to (See Datasheet)", 3 NC "No Connection. Not internally connected. These pins provide extra distance between high and low voltage pins.", 4 OUT (power) "Drain Voltage Sense and Positive Supply Input. OUT is the diode-OR output of IN1 and IN2. It connects to the common drain connection of the N-channel MOSFETs. The voltage sensed at this pin is used to control the sourcedrain (See Datasheet)", 5 NC "No Connection. Not internally connected. These pins provide extra distance between high and low voltage pins.", 6 GATE2 (out) "Gate Drive Outputs. The GATE pins pull high, enhancing the N-channel MOSFET when the load current creates more than 25mV of voltage drop across the MOSFET. When the load current is small, the gates are actively driven to (See Datasheet)", 7 IN2 (power) "Input Voltages and GATE Fast Pull-Down Returns. The IN pins are the anodes of the ideal diodes and connect to the sources of the N-channel MOSFETs. The voltages sensed at these pins are used to control the source-drain (See Datasheet)", 8 ~{VDSFLT} (hiz) "MOSFET Fault Output. Open-drain output that pulls to GND when the forward voltage across either MOSFET exceeds deltaVSD(FLT). P\W\R\F\L\T\1\ or P\W\R\F\L\T\2\ also pulls low to indicate which MOSFET’s forward voltage dro(See Datasheet)", 9 GND (power) "Device Ground.", 10 SET (in) "deltaVSD(FLT) Threshold Configuration Input. Tying SET to GND, to a 100k resistor connected to GND, or leaving SET open configures the deltaVSD(FLT) forward voltage fault threshold to 250mV, 500mV, or 1.5V, respectively. (See Datasheet)", 11 MON2 (in) "Input Supply Monitors. These pins are used to sense the input supply voltages. Connect these pins to external resistive dividers between the input supplies and GND. If VMONx falls below 1.23V, the P\W\R\F\L\T\x\ pin pulls to (See Datasheet)", 12 ~{PWRFLT2} (hiz) "Power Fault Outputs. Open-drain output that pulls to GND when VMONx falls below 1.23V or the forward voltage across the MOSFET exceeds deltaVSD(FLT). When VMONx is above 1.23V and theforward voltage across the MOSFET is less (See Datasheet)", 13 ~{FUSEFLT2} (hiz) "Fuse Fault Outputs. Open-drain output that pulls to GND when VINx < 3.5V, indicating that the fuse has blown open. Otherwise, this output is high impedance. Connect to GND if unused.", 14 ~{FUSEFLT1} (hiz) "Fuse Fault Outputs. Open-drain output that pulls to GND when VINx < 3.5V, indicating that the fuse has blown open. Otherwise, this output is high impedance. Connect to GND if unused.", 15 ~{PWRFLT1} (hiz) "Power Fault Outputs. Open-drain output that pulls to GND when VMONx falls below 1.23V or the forward voltage across the MOSFET exceeds deltaVSD(FLT). When VMONx is above 1.23V and theforward voltage across the MOSFET is less (See Datasheet)", 16 MON1 (in) "Input Supply Monitors. These pins are used to sense the input supply voltages. Connect these pins to external resistive dividers between the input supplies and GND. If VMONx falls below 1.23V, the P\W\R\F\L\T\x\ pin pulls to (See Datasheet)"

## LTC4355CS#TRPBF
designator U?
Positive High Voltage Dual Ideal Diode-OR with Input Supply and Fuse Monitors, 9 to 80 V Vin, 16-pin SOP (S-16), 0 to 70 degC, Pb-Free, Tape and Reel; Manufacturer: Linear Technology; PartNumber: LTC4355CS#TRPBF; Ideal Diode: Dual, External, N-Channel; DatasheetVersion: Rev. E; PackageVersion: Rev. G, 05/2012; PackageReference: S-16; PackageDescription: 16-Pin Plastic Small Outline, Body 9.9 x 3.9 mm, Pitch 1.27 mm; Supplier 1: Digi-Key; Supplier Part Number 1: LTC4355CS#TRPBF-ND; Packing: Tape and Reel; RoHS: TRUE; Mounting Technology: Surface Mount; ComponentLink1Description: Manufacturer URL; ComponentLink1URL: http://www.linear.com/; ComponentLink2Description: Datasheet; ComponentLink2URL: http://cds.linear.com/docs/en/datasheet/4355fe.pdf; ComponentLink3Description: Package Specification; ComponentLink3URL: http://cds.linear.com/docs/en/packaging/S16%2005-08-1610%20Rev%20G.pdf
footprint LT-S-16_N (SOP, 16-Leads, Body 10x4mm, Pitch 1.27mm, IPC Medium Density)
footprint LT-S-16_L (SOP, 16-Leads, Body 10x4mm, Pitch 1.27mm, IPC High Density)
footprint LT-S-16_M (SOP, 16-Leads, Body 10x4mm, Pitch 1.27mm, IPC Low Density)
pins: 1 IN1 (power) "Input Voltages and GATE Fast Pull-Down Returns. The IN pins are the anodes of the ideal diodes and connect to the sources of the N-channel MOSFETs. The voltages sensed at these pins are used to control the source-drain (See Datasheet)", 2 GATE1 (out) "Gate Drive Outputs. The GATE pins pull high, enhancing the N-channel MOSFET when the load current creates more than 25mV of voltage drop across the MOSFET. When the load current is small, the gates are actively driven to (See Datasheet)", 3 NC "No Connection. Not internally connected. These pins provide extra distance between high and low voltage pins.", 4 OUT (power) "Drain Voltage Sense and Positive Supply Input. OUT is the diode-OR output of IN1 and IN2. It connects to the common drain connection of the N-channel MOSFETs. The voltage sensed at this pin is used to control the sourcedrain (See Datasheet)", 5 NC "No Connection. Not internally connected. These pins provide extra distance between high and low voltage pins.", 6 GATE2 (out) "Gate Drive Outputs. The GATE pins pull high, enhancing the N-channel MOSFET when the load current creates more than 25mV of voltage drop across the MOSFET. When the load current is small, the gates are actively driven to (See Datasheet)", 7 IN2 (power) "Input Voltages and GATE Fast Pull-Down Returns. The IN pins are the anodes of the ideal diodes and connect to the sources of the N-channel MOSFETs. The voltages sensed at these pins are used to control the source-drain (See Datasheet)", 8 ~{VDSFLT} (hiz) "MOSFET Fault Output. Open-drain output that pulls to GND when the forward voltage across either MOSFET exceeds deltaVSD(FLT). P\W\R\F\L\T\1\ or P\W\R\F\L\T\2\ also pulls low to indicate which MOSFET’s forward voltage dro(See Datasheet)", 9 GND (power) "Device Ground.", 10 SET (in) "deltaVSD(FLT) Threshold Configuration Input. Tying SET to GND, to a 100k resistor connected to GND, or leaving SET open configures the deltaVSD(FLT) forward voltage fault threshold to 250mV, 500mV, or 1.5V, respectively. (See Datasheet)", 11 MON2 (in) "Input Supply Monitors. These pins are used to sense the input supply voltages. Connect these pins to external resistive dividers between the input supplies and GND. If VMONx falls below 1.23V, the P\W\R\F\L\T\x\ pin pulls to (See Datasheet)", 12 ~{PWRFLT2} (hiz) "Power Fault Outputs. Open-drain output that pulls to GND when VMONx falls below 1.23V or the forward voltage across the MOSFET exceeds deltaVSD(FLT). When VMONx is above 1.23V and theforward voltage across the MOSFET is less (See Datasheet)", 13 ~{FUSEFLT2} (hiz) "Fuse Fault Outputs. Open-drain output that pulls to GND when VINx < 3.5V, indicating that the fuse has blown open. Otherwise, this output is high impedance. Connect to GND if unused.", 14 ~{FUSEFLT1} (hiz) "Fuse Fault Outputs. Open-drain output that pulls to GND when VINx < 3.5V, indicating that the fuse has blown open. Otherwise, this output is high impedance. Connect to GND if unused.", 15 ~{PWRFLT1} (hiz) "Power Fault Outputs. Open-drain output that pulls to GND when VMONx falls below 1.23V or the forward voltage across the MOSFET exceeds deltaVSD(FLT). When VMONx is above 1.23V and theforward voltage across the MOSFET is less (See Datasheet)", 16 MON1 (in) "Input Supply Monitors. These pins are used to sense the input supply voltages. Connect these pins to external resistive dividers between the input supplies and GND. If VMONx falls below 1.23V, the P\W\R\F\L\T\x\ pin pulls to (See Datasheet)"

## LTC4355IDE#PBF
designator U?
Positive High Voltage Dual Ideal Diode-OR with Input Supply and Fuse Monitors, 9 to 80 V Vin, 14-pin SON (DE-14), -40 to 85 degC, Pb-Free; Manufacturer: Linear Technology; PartNumber: LTC4355IDE#PBF; Ideal Diode: Dual, External, N-Channel; DatasheetVersion: Rev. E; PackageVersion: Rev. B, 06/2010; PackageReference: DE-14; PackageDescription: 14-Pin Plastic DFN, Body 4 x 3 mm, Pitch 0.5 mm; Supplier 1: Digi-Key; Supplier Part Number 1: LTC4355IDE#PBF-ND; Supplier 2: Newark; Supplier Part Number 2: 56M9462; RoHS: TRUE; Mounting Technology: Surface Mount; Code_JEDEC: MO-229; ComponentLink1Description: Manufacturer URL; ComponentLink1URL: http://www.linear.com/; ComponentLink2Description: Datasheet; ComponentLink2URL: http://cds.linear.com/docs/en/datasheet/4355fe.pdf; ComponentLink3Description: Package Specification; ComponentLink3URL: http://www.linear.com/docs/en/packaging/DFN_14_05-08-1708.pdf
footprint LT-DE-14_V (SON, 14-Leads, Body 4x3mm, Pitch 0.5mm, Thermal Pad 3.3x1.7mm)
pins: 1 IN1 (power) "Input Voltages and GATE Fast Pull-Down Returns. The IN pins are the anodes of the ideal diodes and connect to the sources of the N-channel MOSFETs. The voltages sensed at these pins are used to control the source-drain (See Datasheet)", 2 GATE1 (out) "Gate Drive Outputs. The GATE pins pull high, enhancing the N-channel MOSFET when the load current creates more than 25mV of voltage drop across the MOSFET. When the load current is small, the gates are actively driven to (See Datasheet)", 3 OUT (power) "Drain Voltage Sense and Positive Supply Input. OUT is the diode-OR output of IN1 and IN2. It connects to the common drain connection of the N-channel MOSFETs. The voltage sensed at this pin is used to control the sourcedrain (See Datasheet)", 4 GATE2 (out) "Gate Drive Outputs. The GATE pins pull high, enhancing the N-channel MOSFET when the load current creates more than 25mV of voltage drop across the MOSFET. When the load current is small, the gates are actively driven to (See Datasheet)", 5 IN2 (power) "Input Voltages and GATE Fast Pull-Down Returns. The IN pins are the anodes of the ideal diodes and connect to the sources of the N-channel MOSFETs. The voltages sensed at these pins are used to control the source-drain (See Datasheet)", 6 ~{VDSFLT} (hiz) "MOSFET Fault Output. Open-drain output that pulls to GND when the forward voltage across either MOSFET exceeds deltaVSD(FLT). P\W\R\F\L\T\1\ or P\W\R\F\L\T\2\ also pulls low to indicate which MOSFET’s forward voltage dro(See Datasheet)", 7 GND (power) "Device Ground.", 8 SET (in) "deltaVSD(FLT) Threshold Confi guration Input. Tying SET to GND, to a 100k resistor connected to GND, or leaving SET open confi gures the deltaVSD(FLT) forward voltage fault threshold to 250mV, 500mV, or 1.5V, respectively. (See Datasheet)", 9 MON2 (in) "Input Supply Monitors. These pins are used to sense the input supply voltages. Connect these pins to external resistive dividers between the input supplies and GND. If VMONx falls below 1.23V, the P\W\R\F\L\T\x\ pin pulls to (See Datasheet)", 10 ~{PWRFLT2} (hiz) "Power Fault Outputs. Open-drain output that pulls to GND when VMONx falls below 1.23V or the forward voltage across the MOSFET exceeds deltaVSD(FLT). When VMONx is above 1.23V and theforward voltage across the MOSFET is less (See Datasheet)", 11 ~{FUSEFLT2} (hiz) "Fuse Fault Outputs. Open-drain output that pulls to GND when VINx < 3.5V, indicating that the fuse has blown open. Otherwise, this output is high impedance. Connect to GND if unused.", 12 ~{FUSEFLT1} (hiz) "Fuse Fault Outputs. Open-drain output that pulls to GND when VINx < 3.5V, indicating that the fuse has blown open. Otherwise, this output is high impedance. Connect to GND if unused.", 13 ~{PWRFLT1} (hiz) "Power Fault Outputs. Open-drain output that pulls to GND when VMONx falls below 1.23V or the forward voltage across the MOSFET exceeds deltaVSD(FLT). When VMONx is above 1.23V and theforward voltage across the MOSFET is less (See Datasheet)", 14 MON1 (in) "Input Supply Monitors. These pins are used to sense the input supply voltages. Connect these pins to external resistive dividers between the input supplies and GND. If VMONx falls below 1.23V, the P\W\R\F\L\T\x\ pin pulls to (See Datasheet)", 15 EP (power) "Exposed pad may be left open or connected to GND."

## LTC4355IDE#TRPBF
designator U?
Positive High Voltage Dual Ideal Diode-OR with Input Supply and Fuse Monitors, 9 to 80 V Vin, 14-pin SON (DE-14), -40 to 85 degC, Pb-Free, Tape and Reel; Manufacturer: Linear Technology; PartNumber: LTC4355IDE#TRPBF; Ideal Diode: Dual, External, N-Channel; DatasheetVersion: Rev. E; PackageVersion: Rev. B, 06/2010; PackageReference: DE-14; PackageDescription: 14-Pin Plastic DFN, Body 4 x 3 mm, Pitch 0.5 mm; Supplier 1: Digi-Key; Supplier Part Number 1: LTC4355IDE#TRPBF-ND; Supplier 2: Newark; Supplier Part Number 2: 56M9463; Packing: Tape and Reel; RoHS: TRUE; Mounting Technology: Surface Mount; Code_JEDEC: MO-229; ComponentLink1Description: Manufacturer URL; ComponentLink1URL: http://www.linear.com/; ComponentLink2Description: Datasheet; ComponentLink2URL: http://cds.linear.com/docs/en/datasheet/4355fe.pdf; ComponentLink3Description: Package Specification; ComponentLink3URL: http://www.linear.com/docs/en/packaging/DFN_14_05-08-1708.pdf
footprint LT-DE-14_V (SON, 14-Leads, Body 4x3mm, Pitch 0.5mm, Thermal Pad 3.3x1.7mm)
pins: 1 IN1 (power) "Input Voltages and GATE Fast Pull-Down Returns. The IN pins are the anodes of the ideal diodes and connect to the sources of the N-channel MOSFETs. The voltages sensed at these pins are used to control the source-drain (See Datasheet)", 2 GATE1 (out) "Gate Drive Outputs. The GATE pins pull high, enhancing the N-channel MOSFET when the load current creates more than 25mV of voltage drop across the MOSFET. When the load current is small, the gates are actively driven to (See Datasheet)", 3 OUT (power) "Drain Voltage Sense and Positive Supply Input. OUT is the diode-OR output of IN1 and IN2. It connects to the common drain connection of the N-channel MOSFETs. The voltage sensed at this pin is used to control the sourcedrain (See Datasheet)", 4 GATE2 (out) "Gate Drive Outputs. The GATE pins pull high, enhancing the N-channel MOSFET when the load current creates more than 25mV of voltage drop across the MOSFET. When the load current is small, the gates are actively driven to (See Datasheet)", 5 IN2 (power) "Input Voltages and GATE Fast Pull-Down Returns. The IN pins are the anodes of the ideal diodes and connect to the sources of the N-channel MOSFETs. The voltages sensed at these pins are used to control the source-drain (See Datasheet)", 6 ~{VDSFLT} (hiz) "MOSFET Fault Output. Open-drain output that pulls to GND when the forward voltage across either MOSFET exceeds deltaVSD(FLT). P\W\R\F\L\T\1\ or P\W\R\F\L\T\2\ also pulls low to indicate which MOSFET’s forward voltage dro(See Datasheet)", 7 GND (power) "Device Ground.", 8 SET (in) "deltaVSD(FLT) Threshold Confi guration Input. Tying SET to GND, to a 100k resistor connected to GND, or leaving SET open confi gures the deltaVSD(FLT) forward voltage fault threshold to 250mV, 500mV, or 1.5V, respectively. (See Datasheet)", 9 MON2 (in) "Input Supply Monitors. These pins are used to sense the input supply voltages. Connect these pins to external resistive dividers between the input supplies and GND. If VMONx falls below 1.23V, the P\W\R\F\L\T\x\ pin pulls to (See Datasheet)", 10 ~{PWRFLT2} (hiz) "Power Fault Outputs. Open-drain output that pulls to GND when VMONx falls below 1.23V or the forward voltage across the MOSFET exceeds deltaVSD(FLT). When VMONx is above 1.23V and theforward voltage across the MOSFET is less (See Datasheet)", 11 ~{FUSEFLT2} (hiz) "Fuse Fault Outputs. Open-drain output that pulls to GND when VINx < 3.5V, indicating that the fuse has blown open. Otherwise, this output is high impedance. Connect to GND if unused.", 12 ~{FUSEFLT1} (hiz) "Fuse Fault Outputs. Open-drain output that pulls to GND when VINx < 3.5V, indicating that the fuse has blown open. Otherwise, this output is high impedance. Connect to GND if unused.", 13 ~{PWRFLT1} (hiz) "Power Fault Outputs. Open-drain output that pulls to GND when VMONx falls below 1.23V or the forward voltage across the MOSFET exceeds deltaVSD(FLT). When VMONx is above 1.23V and theforward voltage across the MOSFET is less (See Datasheet)", 14 MON1 (in) "Input Supply Monitors. These pins are used to sense the input supply voltages. Connect these pins to external resistive dividers between the input supplies and GND. If VMONx falls below 1.23V, the P\W\R\F\L\T\x\ pin pulls to (See Datasheet)", 15 EP (power) "Exposed pad may be left open or connected to GND."